# EAGLE library part MPX5100AP (library ahrs)
IC, PRESSURE SENSOR, 0 TO 100KPA, SIP-6
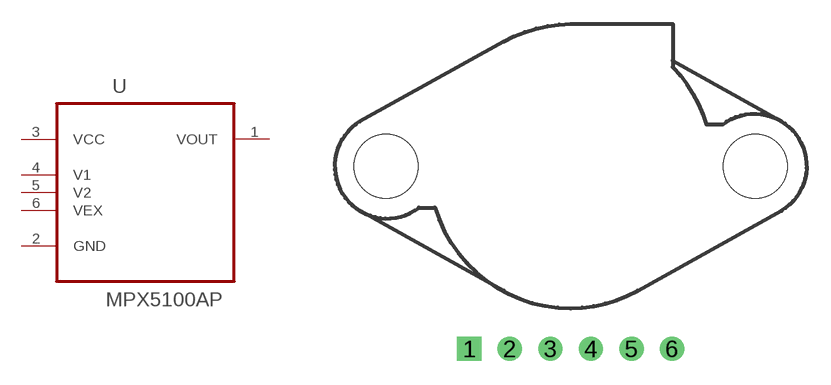
[diagram p0: symbol with the pads of FREESCALE_CASE_867B-04; footprint FREESCALE_CASE_867B-04]

Designator prefix U

## MPX5100AP (MPN: MPX5100AP; OC_FARNELL: 1457156; OC_NEWARK: 07F9928; PACKAGE: CASE 867B-04; SUPPLIER: FREESCALE SEMICONDUCTOR)  [FREESCALE_CASE_867B-04]
1  VOUT  out
2  GND  pwr
3  VCC  pwr
4  V1  in
5  V2  in
6  VEX  pas

## Footprint FREESCALE_CASE_867B-04 (pad centres in mm)
drill 1.016 square: 1 -12.7,2.54
drill 1.016: 2 -10.16,2.54; 3 -7.62,2.54; 4 -5.08,2.54; 5 -2.54,2.54; 6 0,2.54
hole 4 at 5.205,13.97
hole 4 at -17.905,13.97